# Altium footprint library TPS25750DRJKR.PcbLib: 1 footprints
Each footprint in its own frame and in the unit in brackets; x right, y up, seen from the top. Pads: shape width x height; smd on the part's side, far side on the other; paste and mask are expansions set on the pad; w line width, h text height; cw(c..) or ccw(c..) is an arc to the next point about the centre after c.
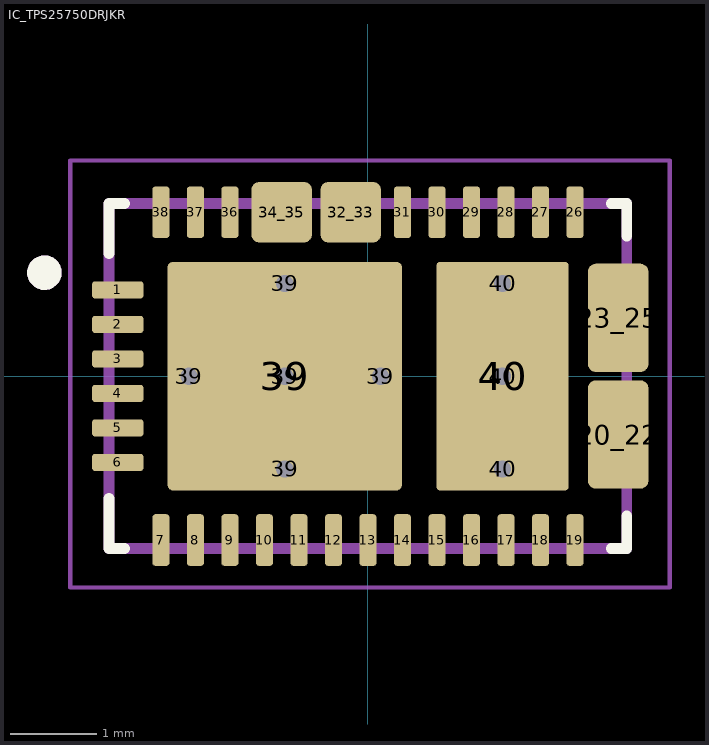
[diagram p0: the footprint, top view; thin cyan lines are the x and y axes]

## IC_TPS25750DRJKR [mm]
pads (42):
  rrect40% 0.6x0.2 smd mask+0: 1(-2.9,1) 2(-2.9,0.6) 3(-2.9,0.2) 4(-2.9,-0.2) 5(-2.9,-0.6) 6(-2.9,-1)
  rrect40% 0.2x0.6 smd mask+0: 7(-2.4,-1.9) 8(-2,-1.9) 9(-1.6,-1.9) 10(-1.2,-1.9) 11(-0.8,-1.9) 12(-0.4,-1.9) 13(0,-1.9) 14(0.4,-1.9) 15(0.8,-1.9) 16(1.2,-1.9) 17(1.6,-1.9) 18(2,-1.9) 19(2.4,-1.9) 26(2.4,1.9) 27(2,1.9) 28(1.6,1.9) 29(1.2,1.9) 30(0.8,1.9) 31(0.4,1.9) 36(-1.6,1.9) 37(-2,1.9) 38(-2.4,1.9)
  rrect25% 0.7x1.253 smd paste-2 mask+0: 20_22(2.9,-0.677) 23_25(2.9,0.677)
  rrect25% 0.7x0.7 smd paste-1 mask+0: 32_33(-0.2,1.9) 34_35(-1,1.9)
  round 0.4 hole 0.2 mask+0: 39(-2.075,0) 39(-0.965,-1.075) 39(-0.965,0) 39(-0.965,1.075) 39(0.145,0) 40(1.56,-1.075) 40(1.56,0) 40(1.56,1.075)
  rrect5% 2.72x2.65 smd paste-2: 39(-0.965,0)
  rrect5% 1.53x2.65 smd paste-2: 40(1.56,0)
Top Overlay:
  circle w0.2: c-3.75,1.2 r0.1
  lines w0.127: -3,-1.42 -3,-2 -2.82,-2 ; -3,1.42 -3,2 -2.82,2 ; 2.82,-2 3,-2 3,-1.623 ; 2.82,2 3,2 3,1.623
Mechanical 13:
  circle w0.2: c-3.75,1.2 r0.1
  lines w0.127: -3,-2 -3,2 3,2 3,-2 -3,-2
Mechanical 15:
  lines w0.05: -3.45,-2.45 3.5,-2.45 3.5,2.5 -3.45,2.5 -3.45,-2.45